# Altium schematic symbol library jlcpcb_2025_04_inductors_extended_0201.schlib: 459 symbols (part 4 of 9)
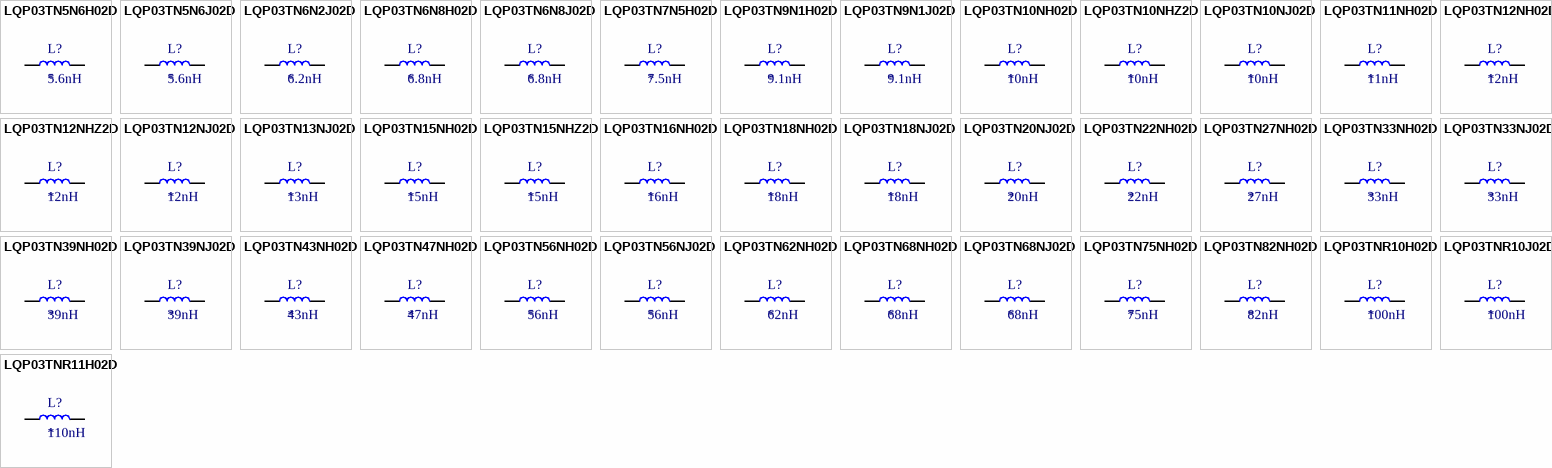
[diagram p14: symbols LQP03TN5N6H02D to LQP03TNR11H02D]

## LQP03TN6N8H02D
designator L?  Inductance: 6.8nH
Inductor, 6.8nH, ±3%, 600mΩ, 300mA, SMD 0201; Manufacturer: Murata Electronics; Manufacturer Part Number: LQP03TN6N8H02D; Self-Resonant Frequency: 3.9GHz; Q Factor: 14@500MHz; Package Size: 0201; JLCPCB Basic Part: No; JLCPCB Part Number: C162628; Supplier 1: LCSC; Category: Inductors; Supplier Part Number 1: C162628; Tolerance: ±3%; Rated Current: 300mA; DC Resistance: 600mΩ; RoHS: Yes; ComponentLink1Description: Datasheet; ComponentLink1URL: https://wmsc.lcsc.com/wmsc/upload/file/pdf/v2/lcsc/2304140030_Murata-Electronics-LQP03TN6N8H02D_C162628.pdf; ComponentLink2Description: JLCPCB Part URL; ComponentLink2URL: https://jlcpcb.com/partdetail/C162628; ComponentLink3Description: LCSC Part URL; ComponentLink3URL: https://lcsc.com/product-detail/Inductors-SMD_Murata-Electronics-Murata-Electronics-LQP03TN6N8H02D_C162628.html
footprint IND-0201 (0201 (0603M) Inductor)
pins: 1, 2

## LQP03TN6N8J02D
designator L?  Inductance: 6.8nH
Inductor, 6.8nH, ±5%, 600mΩ, 300mA, SMD 0201; Manufacturer: Murata Electronics; Manufacturer Part Number: LQP03TN6N8J02D; Self-Resonant Frequency: 3.9GHz; Q Factor: 14@500MHz; Package Size: 0201; JLCPCB Basic Part: No; JLCPCB Part Number: C162629; Supplier 1: LCSC; Category: Inductors; Supplier Part Number 1: C162629; Tolerance: ±5%; Rated Current: 300mA; DC Resistance: 600mΩ; RoHS: Yes; ComponentLink1Description: Datasheet; ComponentLink1URL: https://wmsc.lcsc.com/wmsc/upload/file/pdf/v2/lcsc/1811081627_Murata-Electronics-LQP03TN6N8J02D_C162629.pdf; ComponentLink2Description: JLCPCB Part URL; ComponentLink2URL: https://jlcpcb.com/partdetail/C162629; ComponentLink3Description: LCSC Part URL; ComponentLink3URL: https://lcsc.com/product-detail/Inductors-SMD_Murata-Electronics-Murata-Electronics-LQP03TN6N8J02D_C162629.html
footprint IND-0201 (0201 (0603M) Inductor)
pins: 1, 2

## LQP03TN7N5H02D
designator L?  Inductance: 7.5nH
Inductor, 7.5nH, ±3%, 600mΩ, 300mA, SMD 0201; Manufacturer: Murata Electronics; Manufacturer Part Number: LQP03TN7N5H02D; Self-Resonant Frequency: 3.7GHz; Q Factor: 14@500MHz; Package Size: 0201; JLCPCB Basic Part: No; JLCPCB Part Number: C98046; Supplier 1: LCSC; Category: Inductors; Supplier Part Number 1: C98046; Tolerance: ±3%; Rated Current: 300mA; DC Resistance: 600mΩ; RoHS: Yes; ComponentLink1Description: Datasheet; ComponentLink1URL: https://wmsc.lcsc.com/wmsc/upload/file/pdf/v2/lcsc/2304140030_Murata-Electronics-LQP03TN7N5H02D_C98046.pdf; ComponentLink2Description: JLCPCB Part URL; ComponentLink2URL: https://jlcpcb.com/partdetail/C98046; ComponentLink3Description: LCSC Part URL; ComponentLink3URL: https://lcsc.com/product-detail/Inductors-SMD_Murata-Electronics-Murata-Electronics-LQP03TN7N5H02D_C98046.html
footprint IND-0201 (0201 (0603M) Inductor)
pins: 1, 2

## LQP03TN9N1H02D
designator L?  Inductance: 9.1nH
Inductor, 9.1nH, ±3%, 700mΩ, 250mA, SMD 0201; Manufacturer: Murata Electronics; Manufacturer Part Number: LQP03TN9N1H02D; Self-Resonant Frequency: 3.3GHz; Q Factor: 14@500MHz; Package Size: 0201; JLCPCB Basic Part: No; JLCPCB Part Number: C162631; Supplier 1: LCSC; Category: Inductors; Supplier Part Number 1: C162631; Tolerance: ±3%; Rated Current: 250mA; DC Resistance: 700mΩ; RoHS: Yes; ComponentLink1Description: Datasheet; ComponentLink1URL: https://wmsc.lcsc.com/wmsc/upload/file/pdf/v2/lcsc/2304140030_Murata-Electronics-LQP03TN9N1H02D_C162631.pdf; ComponentLink2Description: JLCPCB Part URL; ComponentLink2URL: https://jlcpcb.com/partdetail/C162631; ComponentLink3Description: LCSC Part URL; ComponentLink3URL: https://lcsc.com/product-detail/Inductors-SMD_Murata-Electronics-Murata-Electronics-LQP03TN9N1H02D_C162631.html
footprint IND-0201 (0201 (0603M) Inductor)
pins: 1, 2

## LQP03TN9N1J02D
designator L?  Inductance: 9.1nH
Inductor, 9.1nH, ±5%, 700mΩ, 250mA, SMD 0201; Manufacturer: Murata Electronics; Manufacturer Part Number: LQP03TN9N1J02D; Self-Resonant Frequency: 3.3GHz; Q Factor: 14@500MHz; Package Size: 0201; JLCPCB Basic Part: No; JLCPCB Part Number: C162632; Supplier 1: LCSC; Category: Inductors; Supplier Part Number 1: C162632; Tolerance: ±5%; Rated Current: 250mA; DC Resistance: 700mΩ; RoHS: Yes; ComponentLink1Description: Datasheet; ComponentLink1URL: https://wmsc.lcsc.com/wmsc/upload/file/pdf/v2/lcsc/2304140030_Murata-Electronics-LQP03TN9N1J02D_C162632.pdf; ComponentLink2Description: JLCPCB Part URL; ComponentLink2URL: https://jlcpcb.com/partdetail/C162632; ComponentLink3Description: LCSC Part URL; ComponentLink3URL: https://lcsc.com/product-detail/Inductors-SMD_Murata-Electronics-Murata-Electronics-LQP03TN9N1J02D_C162632.html
footprint IND-0201 (0201 (0603M) Inductor)
pins: 1, 2

## LQP03TN10NH02D
designator L?  Inductance: 10nH
Inductor, 10nH, ±3%, 700mΩ, 250mA, SMD 0201; Manufacturer: Murata Electronics; Manufacturer Part Number: LQP03TN10NH02D; Self-Resonant Frequency: 3.2GHz; Q Factor: 14@500MHz; Package Size: 0201; JLCPCB Basic Part: No; JLCPCB Part Number: C162594; Supplier 1: LCSC; Category: Inductors; Supplier Part Number 1: C162594; Tolerance: ±3%; Rated Current: 250mA; DC Resistance: 700mΩ; RoHS: Yes; ComponentLink1Description: Datasheet; ComponentLink1URL: https://wmsc.lcsc.com/wmsc/upload/file/pdf/v2/lcsc/2304140030_Murata-Electronics-LQP03TN10NH02D_C162594.pdf; ComponentLink2Description: JLCPCB Part URL; ComponentLink2URL: https://jlcpcb.com/partdetail/C162594; ComponentLink3Description: LCSC Part URL; ComponentLink3URL: https://lcsc.com/product-detail/Inductors-SMD_Murata-Electronics-Murata-Electronics-LQP03TN10NH02D_C162594.html
footprint IND-0201 (0201 (0603M) Inductor)
pins: 1, 2

## LQP03TN10NHZ2D
designator L?  Inductance: 10nH
Inductor, 10nH, ±3%, 700mΩ, 250mA, SMD 0201; Manufacturer: Murata Electronics; Manufacturer Part Number: LQP03TN10NHZ2D; Self-Resonant Frequency: 3.2GHz; Q Factor: 14@500MHz; Package Size: 0201; JLCPCB Basic Part: No; JLCPCB Part Number: C2046197; Supplier 1: LCSC; Category: Inductors; Supplier Part Number 1: C2046197; Tolerance: ±3%; Rated Current: 250mA; DC Resistance: 700mΩ; RoHS: Yes; ComponentLink1Description: Datasheet; ComponentLink1URL: https://wmsc.lcsc.com/wmsc/upload/file/pdf/v2/lcsc/2304140030_Murata-Electronics-LQP03TN10NHZ2D_C2046197.pdf; ComponentLink2Description: JLCPCB Part URL; ComponentLink2URL: https://jlcpcb.com/partdetail/C2046197; ComponentLink3Description: LCSC Part URL; ComponentLink3URL: https://lcsc.com/product-detail/Inductors-SMD_Murata-Electronics-Murata-Electronics-LQP03TN10NHZ2D_C2046197.html
footprint IND-0201 (0201 (0603M) Inductor)
pins: 1, 2

## LQP03TN10NJ02D
designator L?  Inductance: 10nH
Inductor, 10nH, ±5%, 700mΩ, 250mA, SMD 0201; Manufacturer: Murata Electronics; Manufacturer Part Number: LQP03TN10NJ02D; Self-Resonant Frequency: 3.2GHz; Q Factor: 14@500MHz; Package Size: 0201; JLCPCB Basic Part: No; JLCPCB Part Number: C162595; Supplier 1: LCSC; Category: Inductors; Supplier Part Number 1: C162595; Tolerance: ±5%; Rated Current: 250mA; DC Resistance: 700mΩ; RoHS: Yes; ComponentLink1Description: Datasheet; ComponentLink1URL: https://wmsc.lcsc.com/wmsc/upload/file/pdf/v2/lcsc/2304140030_Murata-Electronics-LQP03TN10NJ02D_C162595.pdf; ComponentLink2Description: JLCPCB Part URL; ComponentLink2URL: https://jlcpcb.com/partdetail/C162595; ComponentLink3Description: LCSC Part URL; ComponentLink3URL: https://lcsc.com/product-detail/Inductors-SMD_Murata-Electronics-Murata-Electronics-LQP03TN10NJ02D_C162595.html
footprint IND-0201 (0201 (0603M) Inductor)
pins: 1, 2

## LQP03TN11NH02D
designator L?  Inductance: 11nH
Inductor, 11nH, ±3%, 800mΩ, 250mA, SMD 0201; Manufacturer: Murata Electronics; Manufacturer Part Number: LQP03TN11NH02D; Self-Resonant Frequency: 2.9GHz; Q Factor: 14@500MHz; Package Size: 0201; JLCPCB Basic Part: No; JLCPCB Part Number: C162596; Supplier 1: LCSC; Category: Inductors; Supplier Part Number 1: C162596; Tolerance: ±3%; Rated Current: 250mA; DC Resistance: 800mΩ; RoHS: Yes; ComponentLink1Description: Datasheet; ComponentLink1URL: https://wmsc.lcsc.com/wmsc/upload/file/pdf/v2/lcsc/2304140030_Murata-Electronics-LQP03TN11NH02D_C162596.pdf; ComponentLink2Description: JLCPCB Part URL; ComponentLink2URL: https://jlcpcb.com/partdetail/C162596; ComponentLink3Description: LCSC Part URL; ComponentLink3URL: https://lcsc.com/product-detail/Inductors-SMD_Murata-Electronics-Murata-Electronics-LQP03TN11NH02D_C162596.html
footprint IND-0201 (0201 (0603M) Inductor)
pins: 1, 2

## LQP03TN12NH02D
designator L?  Inductance: 12nH
Inductor, 12nH, ±3%, 700mΩ, 250mA, SMD 0201; Manufacturer: Murata Electronics; Manufacturer Part Number: LQP03TN12NH02D; Self-Resonant Frequency: 2.9GHz; Q Factor: 12@500MHz; Package Size: 0201; JLCPCB Basic Part: No; JLCPCB Part Number: C162597; Supplier 1: LCSC; Category: Inductors; Supplier Part Number 1: C162597; Tolerance: ±3%; Rated Current: 250mA; DC Resistance: 700mΩ; RoHS: Yes; ComponentLink1Description: Datasheet; ComponentLink1URL: https://wmsc.lcsc.com/wmsc/upload/file/pdf/v2/lcsc/2304140030_Murata-Electronics-LQP03TN12NH02D_C162597.pdf; ComponentLink2Description: JLCPCB Part URL; ComponentLink2URL: https://jlcpcb.com/partdetail/C162597; ComponentLink3Description: LCSC Part URL; ComponentLink3URL: https://lcsc.com/product-detail/Inductors-SMD_Murata-Electronics-Murata-Electronics-LQP03TN12NH02D_C162597.html
footprint IND-0201 (0201 (0603M) Inductor)
pins: 1, 2

## LQP03TN12NHZ2D
designator L?  Inductance: 12nH
Inductor, 12nH, ±3%, 700mΩ, 250mA, SMD 0201; Manufacturer: Murata Electronics; Manufacturer Part Number: LQP03TN12NHZ2D; Self-Resonant Frequency: 4.3GHz; Q Factor: 12@500MHz; Package Size: 0201; JLCPCB Basic Part: No; JLCPCB Part Number: C1332832; Supplier 1: LCSC; Category: Inductors; Supplier Part Number 1: C1332832; Tolerance: ±3%; Rated Current: 250mA; DC Resistance: 700mΩ; RoHS: Yes; ComponentLink1Description: Datasheet; ComponentLink1URL: https://wmsc.lcsc.com/wmsc/upload/file/pdf/v2/lcsc/2304140030_Murata-Electronics-LQP03TN12NHZ2D_C1332832.pdf; ComponentLink2Description: JLCPCB Part URL; ComponentLink2URL: https://jlcpcb.com/partdetail/C1332832; ComponentLink3Description: LCSC Part URL; ComponentLink3URL: https://lcsc.com/product-detail/Inductors-SMD_Murata-Electronics-Murata-Electronics-LQP03TN12NHZ2D_C1332832.html
footprint IND-0201 (0201 (0603M) Inductor)
pins: 1, 2

## LQP03TN12NJ02D
designator L?  Inductance: 12nH
Inductor, 12nH, ±5%, 700mΩ, 250mA, SMD 0201; Manufacturer: Murata Electronics; Manufacturer Part Number: LQP03TN12NJ02D; Self-Resonant Frequency: 2.9GHz; Q Factor: 12@500MHz; Package Size: 0201; JLCPCB Basic Part: No; JLCPCB Part Number: C162598; Supplier 1: LCSC; Category: Inductors; Supplier Part Number 1: C162598; Tolerance: ±5%; Rated Current: 250mA; DC Resistance: 700mΩ; RoHS: Yes; ComponentLink1Description: Datasheet; ComponentLink1URL: https://wmsc.lcsc.com/wmsc/upload/file/pdf/v2/lcsc/2304140030_Murata-Electronics-LQP03TN12NJ02D_C162598.pdf; ComponentLink2Description: JLCPCB Part URL; ComponentLink2URL: https://jlcpcb.com/partdetail/C162598; ComponentLink3Description: LCSC Part URL; ComponentLink3URL: https://lcsc.com/product-detail/Inductors-SMD_Murata-Electronics-Murata-Electronics-LQP03TN12NJ02D_C162598.html
footprint IND-0201 (0201 (0603M) Inductor)
pins: 1, 2

## LQP03TN13NJ02D
designator L?  Inductance: 13nH
Inductor, 13nH, ±5%, 800mΩ, 250mA, SMD 0201; Manufacturer: Murata Electronics; Manufacturer Part Number: LQP03TN13NJ02D; Self-Resonant Frequency: 2.6GHz; Q Factor: 12@500MHz; Package Size: 0201; JLCPCB Basic Part: No; JLCPCB Part Number: C206456; Supplier 1: LCSC; Category: Inductors; Supplier Part Number 1: C206456; Tolerance: ±5%; Rated Current: 250mA; DC Resistance: 800mΩ; RoHS: Yes; ComponentLink1Description: Datasheet; ComponentLink1URL: https://wmsc.lcsc.com/wmsc/upload/file/pdf/v2/lcsc/2001031714_Murata-Electronics-LQP03TN13NJ02D_C206456.pdf; ComponentLink2Description: JLCPCB Part URL; ComponentLink2URL: https://jlcpcb.com/partdetail/C206456; ComponentLink3Description: LCSC Part URL; ComponentLink3URL: https://lcsc.com/product-detail/Inductors-SMD_Murata-Electronics-Murata-Electronics-LQP03TN13NJ02D_C206456.html
footprint IND-0201 (0201 (0603M) Inductor)
pins: 1, 2

## LQP03TN15NH02D
designator L?  Inductance: 15nH
Inductor, 15nH, ±3%, 700mΩ, 250mA, SMD 0201; Manufacturer: Murata Electronics; Manufacturer Part Number: LQP03TN15NH02D; Self-Resonant Frequency: 2.6GHz; Q Factor: 12@500MHz; Package Size: 0201; JLCPCB Basic Part: No; JLCPCB Part Number: C98038; Supplier 1: LCSC; Category: Inductors; Supplier Part Number 1: C98038; Tolerance: ±3%; Rated Current: 250mA; DC Resistance: 700mΩ; RoHS: Yes; ComponentLink1Description: Datasheet; ComponentLink1URL: https://wmsc.lcsc.com/wmsc/upload/file/pdf/v2/lcsc/2304140030_Murata-Electronics-LQP03TN15NH02D_C98038.pdf; ComponentLink2Description: JLCPCB Part URL; ComponentLink2URL: https://jlcpcb.com/partdetail/C98038; ComponentLink3Description: LCSC Part URL; ComponentLink3URL: https://lcsc.com/product-detail/Inductors-SMD_Murata-Electronics-Murata-Electronics-LQP03TN15NH02D_C98038.html
footprint IND-0201 (0201 (0603M) Inductor)
pins: 1, 2

## LQP03TN15NHZ2D
designator L?  Inductance: 15nH
Inductor, 15nH, ±3%, 700mΩ, 250mA, SMD 0201; Manufacturer: Murata Electronics; Manufacturer Part Number: LQP03TN15NHZ2D; Self-Resonant Frequency: 3.8GHz; Q Factor: 12@500MHz; Package Size: 0201; JLCPCB Basic Part: No; JLCPCB Part Number: C1332892; Supplier 1: LCSC; Category: Inductors; Supplier Part Number 1: C1332892; Tolerance: ±3%; Rated Current: 250mA; DC Resistance: 700mΩ; RoHS: Yes; ComponentLink1Description: Datasheet; ComponentLink1URL: https://wmsc.lcsc.com/wmsc/upload/file/pdf/v2/lcsc/2304140030_Murata-Electronics-LQP03TN15NHZ2D_C1332892.pdf; ComponentLink2Description: JLCPCB Part URL; ComponentLink2URL: https://jlcpcb.com/partdetail/C1332892; ComponentLink3Description: LCSC Part URL; ComponentLink3URL: https://lcsc.com/product-detail/Inductors-SMD_Murata-Electronics-Murata-Electronics-LQP03TN15NHZ2D_C1332892.html
footprint IND-0201 (0201 (0603M) Inductor)
pins: 1, 2

## LQP03TN16NH02D
designator L?  Inductance: 16nH
Inductor, 16nH, ±3%, 950mΩ, 200mA, SMD 0201; Manufacturer: Murata Electronics; Manufacturer Part Number: LQP03TN16NH02D; Self-Resonant Frequency: 2.2GHz; Q Factor: 12@500MHz; Package Size: 0201; JLCPCB Basic Part: No; JLCPCB Part Number: C206454; Supplier 1: LCSC; Category: Inductors; Supplier Part Number 1: C206454; Tolerance: ±3%; Rated Current: 200mA; DC Resistance: 950mΩ; RoHS: Yes; ComponentLink1Description: Datasheet; ComponentLink1URL: https://wmsc.lcsc.com/wmsc/upload/file/pdf/v2/lcsc/2304140030_Murata-Electronics-LQP03TN16NH02D_C206454.pdf; ComponentLink2Description: JLCPCB Part URL; ComponentLink2URL: https://jlcpcb.com/partdetail/C206454; ComponentLink3Description: LCSC Part URL; ComponentLink3URL: https://lcsc.com/product-detail/Inductors-SMD_Murata-Electronics-Murata-Electronics-LQP03TN16NH02D_C206454.html
footprint IND-0201 (0201 (0603M) Inductor)
pins: 1, 2

## LQP03TN18NH02D
designator L?  Inductance: 18nH
Inductor, 18nH, ±3%, 800mΩ, 200mA, SMD 0201; Manufacturer: Murata Electronics; Manufacturer Part Number: LQP03TN18NH02D; Self-Resonant Frequency: 2.2GHz; Q Factor: 12@500MHz; Package Size: 0201; JLCPCB Basic Part: No; JLCPCB Part Number: C162600; Supplier 1: LCSC; Category: Inductors; Supplier Part Number 1: C162600; Tolerance: ±3%; Rated Current: 200mA; DC Resistance: 800mΩ; RoHS: Yes; ComponentLink1Description: Datasheet; ComponentLink1URL: https://wmsc.lcsc.com/wmsc/upload/file/pdf/v2/lcsc/2304140030_Murata-Electronics-LQP03TN18NH02D_C162600.pdf; ComponentLink2Description: JLCPCB Part URL; ComponentLink2URL: https://jlcpcb.com/partdetail/C162600; ComponentLink3Description: LCSC Part URL; ComponentLink3URL: https://lcsc.com/product-detail/Inductors-SMD_Murata-Electronics-Murata-Electronics-LQP03TN18NH02D_C162600.html
footprint IND-0201 (0201 (0603M) Inductor)
pins: 1, 2

## LQP03TN18NJ02D
designator L?  Inductance: 18nH
Inductor, 18nH, ±5%, 800mΩ, 200mA, SMD 0201; Manufacturer: Murata Electronics; Manufacturer Part Number: LQP03TN18NJ02D; Self-Resonant Frequency: 2.2GHz; Q Factor: 12@500MHz; Package Size: 0201; JLCPCB Basic Part: No; JLCPCB Part Number: C162601; Supplier 1: LCSC; Category: Inductors; Supplier Part Number 1: C162601; Tolerance: ±5%; Rated Current: 200mA; DC Resistance: 800mΩ; RoHS: Yes; ComponentLink1Description: Datasheet; ComponentLink1URL: https://wmsc.lcsc.com/wmsc/upload/file/pdf/v2/lcsc/2304140030_Murata-Electronics-LQP03TN18NJ02D_C162601.pdf; ComponentLink2Description: JLCPCB Part URL; ComponentLink2URL: https://jlcpcb.com/partdetail/C162601; ComponentLink3Description: LCSC Part URL; ComponentLink3URL: https://lcsc.com/product-detail/Inductors-SMD_Murata-Electronics-Murata-Electronics-LQP03TN18NJ02D_C162601.html
footprint IND-0201 (0201 (0603M) Inductor)
pins: 1, 2

## LQP03TN20NJ02D
designator L?  Inductance: 20nH
Inductor, 20nH, ±5%, 2.3Ω, 150mA, SMD 0201; Manufacturer: Murata Electronics; Manufacturer Part Number: LQP03TN20NJ02D; Self-Resonant Frequency: 2.2GHz; Q Factor: 12@500MHz; Package Size: 0201; JLCPCB Basic Part: No; JLCPCB Part Number: C206443; Supplier 1: LCSC; Category: Inductors; Supplier Part Number 1: C206443; Tolerance: ±5%; Rated Current: 150mA; DC Resistance: 2.3Ω; RoHS: Yes; ComponentLink1Description: Datasheet; ComponentLink1URL: https://wmsc.lcsc.com/wmsc/upload/file/pdf/v2/lcsc/2304140030_Murata-Electronics-LQP03TN20NJ02D_C206443.pdf; ComponentLink2Description: JLCPCB Part URL; ComponentLink2URL: https://jlcpcb.com/partdetail/C206443; ComponentLink3Description: LCSC Part URL; ComponentLink3URL: https://lcsc.com/product-detail/Inductors-SMD_Murata-Electronics-Murata-Electronics-LQP03TN20NJ02D_C206443.html
footprint IND-0201 (0201 (0603M) Inductor)
pins: 1, 2

## LQP03TN22NH02D
designator L?  Inductance: 22nH
Inductor, 22nH, ±3%, 1.9Ω, 150mA, SMD 0201; Manufacturer: Murata Electronics; Manufacturer Part Number: LQP03TN22NH02D; Self-Resonant Frequency: 2.2GHz; Q Factor: 12@500MHz; Package Size: 0201; JLCPCB Basic Part: No; JLCPCB Part Number: C86124; Supplier 1: LCSC; Category: Inductors; Supplier Part Number 1: C86124; Tolerance: ±3%; Rated Current: 150mA; DC Resistance: 1.9Ω; RoHS: Yes; ComponentLink1Description: Datasheet; ComponentLink1URL: https://wmsc.lcsc.com/wmsc/upload/file/pdf/v2/lcsc/2304140030_Murata-Electronics-LQP03TN22NH02D_C86124.pdf; ComponentLink2Description: JLCPCB Part URL; ComponentLink2URL: https://jlcpcb.com/partdetail/C86124; ComponentLink3Description: LCSC Part URL; ComponentLink3URL: https://lcsc.com/product-detail/Inductors-SMD_Murata-Electronics-Murata-Electronics-LQP03TN22NH02D_C86124.html
footprint IND-0201 (0201 (0603M) Inductor)
pins: 1, 2

## LQP03TN27NH02D
designator L?  Inductance: 27nH
Inductor, 27nH, ±3%, 2.3Ω, 140mA, SMD 0201; Manufacturer: Murata Electronics; Manufacturer Part Number: LQP03TN27NH02D; Self-Resonant Frequency: 2GHz; Q Factor: 12@500MHz; Package Size: 0201; JLCPCB Basic Part: No; JLCPCB Part Number: C162607; Supplier 1: LCSC; Category: Inductors; Supplier Part Number 1: C162607; Tolerance: ±3%; Rated Current: 140mA; DC Resistance: 2.3Ω; RoHS: Yes; ComponentLink1Description: Datasheet; ComponentLink1URL: https://wmsc.lcsc.com/wmsc/upload/file/pdf/v2/lcsc/2304140030_Murata-Electronics-LQP03TN27NH02D_C162607.pdf; ComponentLink2Description: JLCPCB Part URL; ComponentLink2URL: https://jlcpcb.com/partdetail/C162607; ComponentLink3Description: LCSC Part URL; ComponentLink3URL: https://lcsc.com/product-detail/Inductors-SMD_Murata-Electronics-Murata-Electronics-LQP03TN27NH02D_C162607.html
footprint IND-0201 (0201 (0603M) Inductor)
pins: 1, 2

## LQP03TN33NH02D
designator L?  Inductance: 33nH
Inductor, 33nH, ±3%, 2.95Ω, 120mA, SMD 0201; Manufacturer: Murata Electronics; Manufacturer Part Number: LQP03TN33NH02D; Self-Resonant Frequency: 1.7GHz; Q Factor: 9@300MHz; Package Size: 0201; JLCPCB Basic Part: No; JLCPCB Part Number: C162611; Supplier 1: LCSC; Category: Inductors; Supplier Part Number 1: C162611; Tolerance: ±3%; Rated Current: 120mA; DC Resistance: 2.95Ω; RoHS: Yes; ComponentLink1Description: Datasheet; ComponentLink1URL: https://wmsc.lcsc.com/wmsc/upload/file/pdf/v2/lcsc/2304140030_Murata-Electronics-LQP03TN33NH02D_C162611.pdf; ComponentLink2Description: JLCPCB Part URL; ComponentLink2URL: https://jlcpcb.com/partdetail/C162611; ComponentLink3Description: LCSC Part URL; ComponentLink3URL: https://lcsc.com/product-detail/Inductors-SMD_Murata-Electronics-Murata-Electronics-LQP03TN33NH02D_C162611.html
footprint IND-0201 (0201 (0603M) Inductor)
pins: 1, 2

## LQP03TN33NJ02D
designator L?  Inductance: 33nH
Inductor, 33nH, ±5%, 2.95Ω, 120mA, SMD 0201; Manufacturer: Murata Electronics; Manufacturer Part Number: LQP03TN33NJ02D; Self-Resonant Frequency: 1.7GHz; Q Factor: 9@300MHz; Package Size: 0201; JLCPCB Basic Part: No; JLCPCB Part Number: C206429; Supplier 1: LCSC; Category: Inductors; Supplier Part Number 1: C206429; Tolerance: ±5%; Rated Current: 120mA; DC Resistance: 2.95Ω; RoHS: Yes; ComponentLink1Description: Datasheet; ComponentLink1URL: https://wmsc.lcsc.com/wmsc/upload/file/pdf/v2/lcsc/2304140030_Murata-Electronics-LQP03TN33NJ02D_C206429.pdf; ComponentLink2Description: JLCPCB Part URL; ComponentLink2URL: https://jlcpcb.com/partdetail/C206429; ComponentLink3Description: LCSC Part URL; ComponentLink3URL: https://lcsc.com/product-detail/Inductors-SMD_Murata-Electronics-Murata-Electronics-LQP03TN33NJ02D_C206429.html
footprint IND-0201 (0201 (0603M) Inductor)
pins: 1, 2

## LQP03TN39NH02D
designator L?  Inductance: 39nH
Inductor, 39nH, ±3%, 3Ω, 120mA, SMD 0201; Manufacturer: Murata Electronics; Manufacturer Part Number: LQP03TN39NH02D; Self-Resonant Frequency: 1.5GHz; Q Factor: 9@300MHz; Package Size: 0201; JLCPCB Basic Part: No; JLCPCB Part Number: C162612; Supplier 1: LCSC; Category: Inductors; Supplier Part Number 1: C162612; Tolerance: ±3%; Rated Current: 120mA; DC Resistance: 3Ω; RoHS: Yes; ComponentLink1Description: Datasheet; ComponentLink1URL: https://wmsc.lcsc.com/wmsc/upload/file/pdf/v2/lcsc/2304140030_Murata-Electronics-LQP03TN39NH02D_C162612.pdf; ComponentLink2Description: JLCPCB Part URL; ComponentLink2URL: https://jlcpcb.com/partdetail/C162612; ComponentLink3Description: LCSC Part URL; ComponentLink3URL: https://lcsc.com/product-detail/Inductors-SMD_Murata-Electronics-Murata-Electronics-LQP03TN39NH02D_C162612.html
footprint IND-0201 (0201 (0603M) Inductor)
pins: 1, 2

## LQP03TN39NJ02D
designator L?  Inductance: 39nH
Inductor, 39nH, ±5%, 3Ω, 120mA, SMD 0201; Manufacturer: Murata Electronics; Manufacturer Part Number: LQP03TN39NJ02D; Self-Resonant Frequency: 1.5GHz; Q Factor: 9@300MHz; Package Size: 0201; JLCPCB Basic Part: No; JLCPCB Part Number: C162613; Supplier 1: LCSC; Category: Inductors; Supplier Part Number 1: C162613; Tolerance: ±5%; Rated Current: 120mA; DC Resistance: 3Ω; RoHS: Yes; ComponentLink1Description: Datasheet; ComponentLink1URL: https://wmsc.lcsc.com/wmsc/upload/file/pdf/v2/lcsc/1811081543_Murata-Electronics-LQP03TN39NJ02D_C162613.pdf; ComponentLink2Description: JLCPCB Part URL; ComponentLink2URL: https://jlcpcb.com/partdetail/C162613; ComponentLink3Description: LCSC Part URL; ComponentLink3URL: https://lcsc.com/product-detail/Inductors-SMD_Murata-Electronics-Murata-Electronics-LQP03TN39NJ02D_C162613.html
footprint IND-0201 (0201 (0603M) Inductor)
pins: 1, 2

## LQP03TN43NH02D
designator L?  Inductance: 43nH
Inductor, 43nH, ±3%, 3.6Ω, 100mA, SMD 0201; Manufacturer: Murata Electronics; Manufacturer Part Number: LQP03TN43NH02D; Self-Resonant Frequency: 1.3GHz; Q Factor: 9@300MHz; Package Size: 0201; JLCPCB Basic Part: No; JLCPCB Part Number: C162617; Supplier 1: LCSC; Category: Inductors; Supplier Part Number 1: C162617; Tolerance: ±3%; Rated Current: 100mA; DC Resistance: 3.6Ω; RoHS: Yes; ComponentLink1Description: Datasheet; ComponentLink1URL: https://wmsc.lcsc.com/wmsc/upload/file/pdf/v2/lcsc/2304140030_Murata-Electronics-LQP03TN43NH02D_C162617.pdf; ComponentLink2Description: JLCPCB Part URL; ComponentLink2URL: https://jlcpcb.com/partdetail/C162617; ComponentLink3Description: LCSC Part URL; ComponentLink3URL: https://lcsc.com/product-detail/Inductors-SMD_Murata-Electronics-Murata-Electronics-LQP03TN43NH02D_C162617.html
footprint IND-0201 (0201 (0603M) Inductor)
pins: 1, 2

## LQP03TN47NH02D
designator L?  Inductance: 47nH
Inductor, 47nH, ±3%, 3.6Ω, 100mA, SMD 0201; Manufacturer: Murata Electronics; Manufacturer Part Number: LQP03TN47NH02D; Self-Resonant Frequency: 1.3GHz; Q Factor: 9@300MHz; Package Size: 0201; JLCPCB Basic Part: No; JLCPCB Part Number: C162618; Supplier 1: LCSC; Category: Inductors; Supplier Part Number 1: C162618; Tolerance: ±3%; Rated Current: 100mA; DC Resistance: 3.6Ω; RoHS: Yes; ComponentLink1Description: Datasheet; ComponentLink1URL: https://wmsc.lcsc.com/wmsc/upload/file/pdf/v2/lcsc/2304140030_Murata-Electronics-LQP03TN47NH02D_C162618.pdf; ComponentLink2Description: JLCPCB Part URL; ComponentLink2URL: https://jlcpcb.com/partdetail/C162618; ComponentLink3Description: LCSC Part URL; ComponentLink3URL: https://lcsc.com/product-detail/Inductors-SMD_Murata-Electronics-Murata-Electronics-LQP03TN47NH02D_C162618.html
footprint IND-0201 (0201 (0603M) Inductor)
pins: 1, 2

## LQP03TN56NH02D
designator L?  Inductance: 56nH
Inductor, 56nH, ±3%, 3.9Ω, 100mA, SMD 0201; Manufacturer: Murata Electronics; Manufacturer Part Number: LQP03TN56NH02D; Self-Resonant Frequency: 1.2GHz; Q Factor: 9@300MHz; Package Size: 0201; JLCPCB Basic Part: No; JLCPCB Part Number: C162623; Supplier 1: LCSC; Category: Inductors; Supplier Part Number 1: C162623; Tolerance: ±3%; Rated Current: 100mA; DC Resistance: 3.9Ω; RoHS: Yes; ComponentLink1Description: Datasheet; ComponentLink1URL: https://wmsc.lcsc.com/wmsc/upload/file/pdf/v2/lcsc/2304140030_Murata-Electronics-LQP03TN56NH02D_C162623.pdf; ComponentLink2Description: JLCPCB Part URL; ComponentLink2URL: https://jlcpcb.com/partdetail/C162623; ComponentLink3Description: LCSC Part URL; ComponentLink3URL: https://lcsc.com/product-detail/Inductors-SMD_Murata-Electronics-Murata-Electronics-LQP03TN56NH02D_C162623.html
footprint IND-0201 (0201 (0603M) Inductor)
pins: 1, 2

## LQP03TN56NJ02D
designator L?  Inductance: 56nH
Inductor, 56nH, ±5%, 3.9Ω, 100mA, SMD 0201; Manufacturer: Murata Electronics; Manufacturer Part Number: LQP03TN56NJ02D; Self-Resonant Frequency: 1.2GHz; Q Factor: 9@300MHz; Package Size: 0201; JLCPCB Basic Part: No; JLCPCB Part Number: C206413; Supplier 1: LCSC; Category: Inductors; Supplier Part Number 1: C206413; Tolerance: ±5%; Rated Current: 100mA; DC Resistance: 3.9Ω; RoHS: Yes; ComponentLink1Description: Datasheet; ComponentLink1URL: https://wmsc.lcsc.com/wmsc/upload/file/pdf/v2/lcsc/2304140030_Murata-Electronics-LQP03TN56NJ02D_C206413.pdf; ComponentLink2Description: JLCPCB Part URL; ComponentLink2URL: https://jlcpcb.com/partdetail/C206413; ComponentLink3Description: LCSC Part URL; ComponentLink3URL: https://lcsc.com/product-detail/Inductors-SMD_Murata-Electronics-Murata-Electronics-LQP03TN56NJ02D_C206413.html
footprint IND-0201 (0201 (0603M) Inductor)
pins: 1, 2

## LQP03TN62NH02D
designator L?  Inductance: 62nH
Inductor, 62nH, ±3%, 8Ω, 100mA, SMD 0201; Manufacturer: Murata Electronics; Manufacturer Part Number: LQP03TN62NH02D; Self-Resonant Frequency: 1.1GHz; Q Factor: 8@300MHz; Package Size: 0201; JLCPCB Basic Part: No; JLCPCB Part Number: C412238; Supplier 1: LCSC; Category: Inductors; Supplier Part Number 1: C412238; Tolerance: ±3%; Rated Current: 100mA; DC Resistance: 8Ω; RoHS: Yes; ComponentLink1Description: Datasheet; ComponentLink1URL: https://wmsc.lcsc.com/wmsc/upload/file/pdf/v2/lcsc/2304140030_Murata-Electronics-LQP03TN62NH02D_C412238.pdf; ComponentLink2Description: JLCPCB Part URL; ComponentLink2URL: https://jlcpcb.com/partdetail/C412238; ComponentLink3Description: LCSC Part URL; ComponentLink3URL: https://lcsc.com/product-detail/Inductors-SMD_Murata-Electronics-Murata-Electronics-LQP03TN62NH02D_C412238.html
footprint IND-0201 (0201 (0603M) Inductor)
pins: 1, 2

## LQP03TN68NH02D
designator L?  Inductance: 68nH
Inductor, 68nH, ±3%, 8Ω, 100mA, SMD 0201; Manufacturer: Murata Electronics; Manufacturer Part Number: LQP03TN68NH02D; Self-Resonant Frequency: 1.1GHz; Q Factor: 8@300MHz; Package Size: 0201; JLCPCB Basic Part: No; JLCPCB Part Number: C162625; Supplier 1: LCSC; Category: Inductors; Supplier Part Number 1: C162625; Tolerance: ±3%; Rated Current: 100mA; DC Resistance: 8Ω; RoHS: Yes; ComponentLink1Description: Datasheet; ComponentLink1URL: https://wmsc.lcsc.com/wmsc/upload/file/pdf/v2/lcsc/2304140030_Murata-Electronics-LQP03TN68NH02D_C162625.pdf; ComponentLink2Description: JLCPCB Part URL; ComponentLink2URL: https://jlcpcb.com/partdetail/C162625; ComponentLink3Description: LCSC Part URL; ComponentLink3URL: https://lcsc.com/product-detail/Inductors-SMD_Murata-Electronics-Murata-Electronics-LQP03TN68NH02D_C162625.html
footprint IND-0201 (0201 (0603M) Inductor)
pins: 1, 2

## LQP03TN68NJ02D
designator L?  Inductance: 68nH
Inductor, 68nH, ±5%, 8Ω, 100mA, SMD 0201; Manufacturer: Murata Electronics; Manufacturer Part Number: LQP03TN68NJ02D; Self-Resonant Frequency: 1.1GHz; Q Factor: 8@300MHz; Package Size: 0201; JLCPCB Basic Part: No; JLCPCB Part Number: C162626; Supplier 1: LCSC; Category: Inductors; Supplier Part Number 1: C162626; Tolerance: ±5%; Rated Current: 100mA; DC Resistance: 8Ω; RoHS: Yes; ComponentLink1Description: Datasheet; ComponentLink1URL: https://wmsc.lcsc.com/wmsc/upload/file/pdf/v2/lcsc/1811081533_Murata-Electronics-LQP03TN68NJ02D_C162626.pdf; ComponentLink2Description: JLCPCB Part URL; ComponentLink2URL: https://jlcpcb.com/partdetail/C162626; ComponentLink3Description: LCSC Part URL; ComponentLink3URL: https://lcsc.com/product-detail/Inductors-SMD_Murata-Electronics-Murata-Electronics-LQP03TN68NJ02D_C162626.html
footprint IND-0201 (0201 (0603M) Inductor)
pins: 1, 2

## LQP03TN75NH02D
designator L?  Inductance: 75nH
Inductor, 75nH, ±3%, 10Ω, 100mA, SMD 0201; Manufacturer: Murata Electronics; Manufacturer Part Number: LQP03TN75NH02D; Self-Resonant Frequency: 1GHz; Q Factor: 8@300MHz; Package Size: 0201; JLCPCB Basic Part: No; JLCPCB Part Number: C412239; Supplier 1: LCSC; Category: Inductors; Supplier Part Number 1: C412239; Tolerance: ±3%; Rated Current: 100mA; DC Resistance: 10Ω; RoHS: Yes; ComponentLink1Description: Datasheet; ComponentLink1URL: https://wmsc.lcsc.com/wmsc/upload/file/pdf/v2/lcsc/2304140030_Murata-Electronics-LQP03TN75NH02D_C412239.pdf; ComponentLink2Description: JLCPCB Part URL; ComponentLink2URL: https://jlcpcb.com/partdetail/C412239; ComponentLink3Description: LCSC Part URL; ComponentLink3URL: https://lcsc.com/product-detail/Inductors-SMD_Murata-Electronics-Murata-Electronics-LQP03TN75NH02D_C412239.html
footprint IND-0201 (0201 (0603M) Inductor)
pins: 1, 2

## LQP03TN82NH02D
designator L?  Inductance: 82nH
Inductor, 82nH, ±3%, 10Ω, 100mA, SMD 0201; Manufacturer: Murata Electronics; Manufacturer Part Number: LQP03TN82NH02D; Self-Resonant Frequency: 1GHz; Q Factor: 8@300MHz; Package Size: 0201; JLCPCB Basic Part: No; JLCPCB Part Number: C162630; Supplier 1: LCSC; Category: Inductors; Supplier Part Number 1: C162630; Tolerance: ±3%; Rated Current: 100mA; DC Resistance: 10Ω; RoHS: Yes; ComponentLink1Description: Datasheet; ComponentLink1URL: https://wmsc.lcsc.com/wmsc/upload/file/pdf/v2/lcsc/2304140030_Murata-Electronics-LQP03TN82NH02D_C162630.pdf; ComponentLink2Description: JLCPCB Part URL; ComponentLink2URL: https://jlcpcb.com/partdetail/C162630; ComponentLink3Description: LCSC Part URL; ComponentLink3URL: https://lcsc.com/product-detail/Inductors-SMD_Murata-Electronics-Murata-Electronics-LQP03TN82NH02D_C162630.html
footprint IND-0201 (0201 (0603M) Inductor)
pins: 1, 2

## LQP03TNR10H02D
designator L?  Inductance: 100nH
Inductor, 100nH, ±3%, 10Ω, 80mA, SMD 0201; Manufacturer: Murata Electronics; Manufacturer Part Number: LQP03TNR10H02D; Self-Resonant Frequency: 900MHz; Q Factor: 8@300MHz; Package Size: 0201; JLCPCB Basic Part: No; JLCPCB Part Number: C162633; Supplier 1: LCSC; Category: Inductors; Supplier Part Number 1: C162633; Tolerance: ±3%; Rated Current: 80mA; DC Resistance: 10Ω; RoHS: Yes; ComponentLink1Description: Datasheet; ComponentLink1URL: https://wmsc.lcsc.com/wmsc/upload/file/pdf/v2/lcsc/2304140030_Murata-Electronics-LQP03TNR10H02D_C162633.pdf; ComponentLink2Description: JLCPCB Part URL; ComponentLink2URL: https://jlcpcb.com/partdetail/C162633; ComponentLink3Description: LCSC Part URL; ComponentLink3URL: https://lcsc.com/product-detail/Inductors-SMD_Murata-Electronics-Murata-Electronics-LQP03TNR10H02D_C162633.html
footprint IND-0201 (0201 (0603M) Inductor)
pins: 1, 2

## LQP03TNR10J02D
designator L?  Inductance: 100nH
Inductor, 100nH, ±5%, 10Ω, 80mA, SMD 0201; Manufacturer: Murata Electronics; Manufacturer Part Number: LQP03TNR10J02D; Self-Resonant Frequency: 900MHz; Q Factor: 8@300MHz; Package Size: 0201; JLCPCB Basic Part: No; JLCPCB Part Number: C87279; Supplier 1: LCSC; Category: Inductors; Supplier Part Number 1: C87279; Tolerance: ±5%; Rated Current: 80mA; DC Resistance: 10Ω; RoHS: Yes; ComponentLink1Description: Datasheet; ComponentLink1URL: https://wmsc.lcsc.com/wmsc/upload/file/pdf/v2/lcsc/1811081532_Murata-Electronics-LQP03TNR10J02D_C87279.pdf; ComponentLink2Description: JLCPCB Part URL; ComponentLink2URL: https://jlcpcb.com/partdetail/C87279; ComponentLink3Description: LCSC Part URL; ComponentLink3URL: https://lcsc.com/product-detail/Inductors-SMD_Murata-Electronics-Murata-Electronics-LQP03TNR10J02D_C87279.html
footprint IND-0201 (0201 (0603M) Inductor)
pins: 1, 2

## LQP03TNR11H02D
designator L?  Inductance: 110nH
Inductor, 110nH, ±3%, 12Ω, 80mA, SMD 0201; Manufacturer: Murata Electronics; Manufacturer Part Number: LQP03TNR11H02D; Self-Resonant Frequency: 800MHz; Q Factor: 8@300MHz; Package Size: 0201; JLCPCB Basic Part: No; JLCPCB Part Number: C412241; Supplier 1: LCSC; Category: Inductors; Supplier Part Number 1: C412241; Tolerance: ±3%; Rated Current: 80mA; DC Resistance: 12Ω; RoHS: Yes; ComponentLink1Description: Datasheet; ComponentLink1URL: https://wmsc.lcsc.com/wmsc/upload/file/pdf/v2/lcsc/2304140030_Murata-Electronics-LQP03TNR11H02D_C412241.pdf; ComponentLink2Description: JLCPCB Part URL; ComponentLink2URL: https://jlcpcb.com/partdetail/C412241; ComponentLink3Description: LCSC Part URL; ComponentLink3URL: https://lcsc.com/product-detail/Inductors-SMD_Murata-Electronics-Murata-Electronics-LQP03TNR11H02D_C412241.html
footprint IND-0201 (0201 (0603M) Inductor)
pins: 1, 2

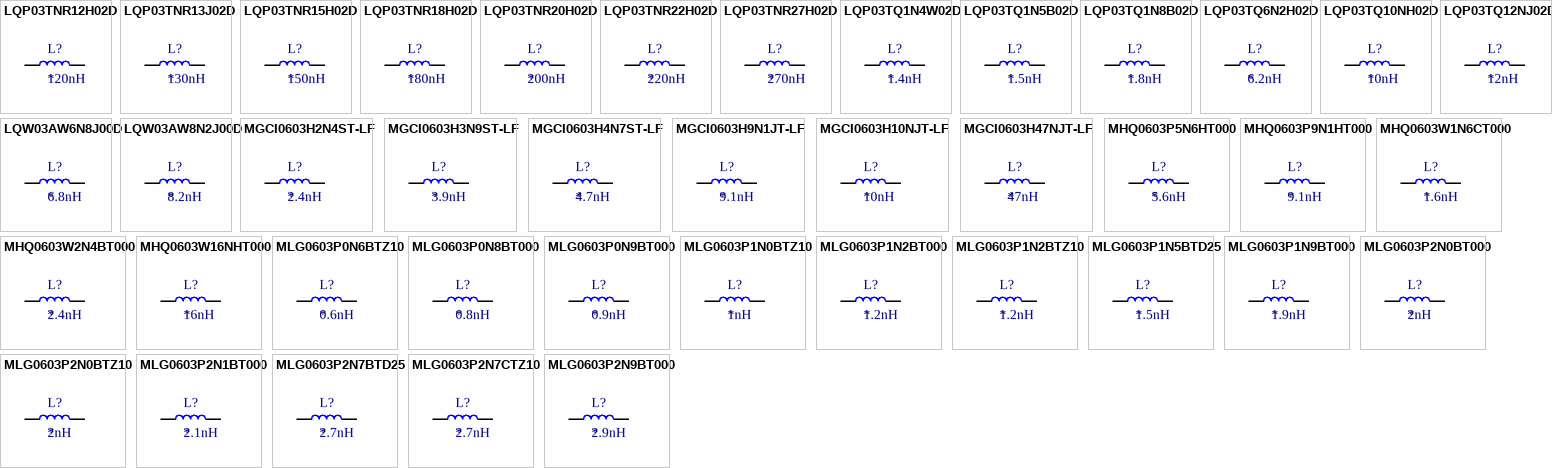
[diagram p5: symbols LQP03TNR12H02D to MLG0603P2N9BT000]

## LQP03TNR12H02D
designator L?  Inductance: 120nH
Inductor, 120nH, ±3%, 12Ω, 80mA, SMD 0201; Manufacturer: Murata Electronics; Manufacturer Part Number: LQP03TNR12H02D; Self-Resonant Frequency: 800MHz; Q Factor: 8@300MHz; Package Size: 0201; JLCPCB Basic Part: No; JLCPCB Part Number: C162634; Supplier 1: LCSC; Category: Inductors; Supplier Part Number 1: C162634; Tolerance: ±3%; Rated Current: 80mA; DC Resistance: 12Ω; RoHS: Yes; ComponentLink1Description: Datasheet; ComponentLink1URL: https://wmsc.lcsc.com/wmsc/upload/file/pdf/v2/lcsc/2304140030_Murata-Electronics-LQP03TNR12H02D_C162634.pdf; ComponentLink2Description: JLCPCB Part URL; ComponentLink2URL: https://jlcpcb.com/partdetail/C162634; ComponentLink3Description: LCSC Part URL; ComponentLink3URL: https://lcsc.com/product-detail/Inductors-SMD_Murata-Electronics-Murata-Electronics-LQP03TNR12H02D_C162634.html
footprint IND-0201 (0201 (0603M) Inductor)
pins: 1, 2

## LQP03TNR13J02D
designator L?  Inductance: 130nH
Inductor, 130nH, ±5%, 9Ω, 80mA, SMD 0201; Manufacturer: Murata Electronics; Manufacturer Part Number: LQP03TNR13J02D; Self-Resonant Frequency: 650MHz; Q Factor: 5@100MHz; Package Size: 0201; JLCPCB Basic Part: No; JLCPCB Part Number: C206404; Supplier 1: LCSC; Category: Inductors; Supplier Part Number 1: C206404; Tolerance: ±5%; Rated Current: 80mA; DC Resistance: 9Ω; RoHS: Yes; ComponentLink1Description: Datasheet; ComponentLink1URL: https://wmsc.lcsc.com/wmsc/upload/file/pdf/v2/lcsc/2304140030_Murata-Electronics-LQP03TNR13J02D_C206404.pdf; ComponentLink2Description: JLCPCB Part URL; ComponentLink2URL: https://jlcpcb.com/partdetail/C206404; ComponentLink3Description: LCSC Part URL; ComponentLink3URL: https://lcsc.com/product-detail/Inductors-SMD_Murata-Electronics-Murata-Electronics-LQP03TNR13J02D_C206404.html
footprint IND-0201 (0201 (0603M) Inductor)
pins: 1, 2

## LQP03TNR15H02D
designator L?  Inductance: 150nH
Inductor, 150nH, ±3%, 9Ω, 80mA, SMD 0201; Manufacturer: Murata Electronics; Manufacturer Part Number: LQP03TNR15H02D; Self-Resonant Frequency: 650MHz; Q Factor: 5@100MHz; Package Size: 0201; JLCPCB Basic Part: No; JLCPCB Part Number: C162635; Supplier 1: LCSC; Category: Inductors; Supplier Part Number 1: C162635; Tolerance: ±3%; Rated Current: 80mA; DC Resistance: 9Ω; RoHS: Yes; ComponentLink1Description: Datasheet; ComponentLink1URL: https://wmsc.lcsc.com/wmsc/upload/file/pdf/v2/lcsc/2304140030_Murata-Electronics-LQP03TNR15H02D_C162635.pdf; ComponentLink2Description: JLCPCB Part URL; ComponentLink2URL: https://jlcpcb.com/partdetail/C162635; ComponentLink3Description: LCSC Part URL; ComponentLink3URL: https://lcsc.com/product-detail/Inductors-SMD_Murata-Electronics-Murata-Electronics-LQP03TNR15H02D_C162635.html
footprint IND-0201 (0201 (0603M) Inductor)
pins: 1, 2

## LQP03TNR18H02D
designator L?  Inductance: 180nH
Inductor, 180nH, ±3%, 11Ω, 70mA, SMD 0201; Manufacturer: Murata Electronics; Manufacturer Part Number: LQP03TNR18H02D; Self-Resonant Frequency: 600MHz; Q Factor: 5@100MHz; Package Size: 0201; JLCPCB Basic Part: No; JLCPCB Part Number: C162636; Supplier 1: LCSC; Category: Inductors; Supplier Part Number 1: C162636; Tolerance: ±3%; Rated Current: 70mA; DC Resistance: 11Ω; RoHS: Yes; ComponentLink1Description: Datasheet; ComponentLink1URL: https://wmsc.lcsc.com/wmsc/upload/file/pdf/v2/lcsc/2304140030_Murata-Electronics-LQP03TNR18H02D_C162636.pdf; ComponentLink2Description: JLCPCB Part URL; ComponentLink2URL: https://jlcpcb.com/partdetail/C162636; ComponentLink3Description: LCSC Part URL; ComponentLink3URL: https://lcsc.com/product-detail/Inductors-SMD_Murata-Electronics-Murata-Electronics-LQP03TNR18H02D_C162636.html
footprint IND-0201 (0201 (0603M) Inductor)
pins: 1, 2

## LQP03TNR20H02D
designator L?  Inductance: 200nH
Inductor, 200nH, ±3%, 13Ω, 60mA, SMD 0201; Manufacturer: Murata Electronics; Manufacturer Part Number: LQP03TNR20H02D; Self-Resonant Frequency: 500MHz; Q Factor: 5@100MHz; Package Size: 0201; JLCPCB Basic Part: No; JLCPCB Part Number: C412244; Supplier 1: LCSC; Category: Inductors; Supplier Part Number 1: C412244; Tolerance: ±3%; Rated Current: 60mA; DC Resistance: 13Ω; RoHS: Yes; ComponentLink1Description: Datasheet; ComponentLink1URL: https://wmsc.lcsc.com/wmsc/upload/file/pdf/v2/lcsc/2304140030_Murata-Electronics-LQP03TNR20H02D_C412244.pdf; ComponentLink2Description: JLCPCB Part URL; ComponentLink2URL: https://jlcpcb.com/partdetail/C412244; ComponentLink3Description: LCSC Part URL; ComponentLink3URL: https://lcsc.com/product-detail/Inductors-SMD_Murata-Electronics-Murata-Electronics-LQP03TNR20H02D_C412244.html
footprint IND-0201 (0201 (0603M) Inductor)
pins: 1, 2

## LQP03TNR22H02D
designator L?  Inductance: 220nH
Inductor, 220nH, ±3%, 13Ω, 60mA, SMD 0201; Manufacturer: Murata Electronics; Manufacturer Part Number: LQP03TNR22H02D; Self-Resonant Frequency: 500MHz; Q Factor: 5@100MHz; Package Size: 0201; JLCPCB Basic Part: No; JLCPCB Part Number: C162637; Supplier 1: LCSC; Category: Inductors; Supplier Part Number 1: C162637; Tolerance: ±3%; Rated Current: 60mA; DC Resistance: 13Ω; RoHS: Yes; ComponentLink1Description: Datasheet; ComponentLink1URL: https://wmsc.lcsc.com/wmsc/upload/file/pdf/v2/lcsc/2304140030_Murata-Electronics-LQP03TNR22H02D_C162637.pdf; ComponentLink2Description: JLCPCB Part URL; ComponentLink2URL: https://jlcpcb.com/partdetail/C162637; ComponentLink3Description: LCSC Part URL; ComponentLink3URL: https://lcsc.com/product-detail/Inductors-SMD_Murata-Electronics-Murata-Electronics-LQP03TNR22H02D_C162637.html
footprint IND-0201 (0201 (0603M) Inductor)
pins: 1, 2

## LQP03TNR27H02D
designator L?  Inductance: 270nH
Inductor, 270nH, ±3%, 15Ω, 60mA, SMD 0201; Manufacturer: Murata Electronics; Manufacturer Part Number: LQP03TNR27H02D; Self-Resonant Frequency: 450MHz; Q Factor: 5@100MHz; Package Size: 0201; JLCPCB Basic Part: No; JLCPCB Part Number: C162638; Supplier 1: LCSC; Category: Inductors; Supplier Part Number 1: C162638; Tolerance: ±3%; Rated Current: 60mA; DC Resistance: 15Ω; RoHS: Yes; ComponentLink1Description: Datasheet; ComponentLink1URL: https://wmsc.lcsc.com/wmsc/upload/file/pdf/v2/lcsc/2304140030_Murata-Electronics-LQP03TNR27H02D_C162638.pdf; ComponentLink2Description: JLCPCB Part URL; ComponentLink2URL: https://jlcpcb.com/partdetail/C162638; ComponentLink3Description: LCSC Part URL; ComponentLink3URL: https://lcsc.com/product-detail/Inductors-SMD_Murata-Electronics-Murata-Electronics-LQP03TNR27H02D_C162638.html
footprint IND-0201 (0201 (0603M) Inductor)
pins: 1, 2

## LQP03TQ1N4W02D
designator L?  Inductance: 1.4nH
Inductor, 1.4nH, 100mΩ, 700mA, SMD 0201; Manufacturer: Murata Electronics; Manufacturer Part Number: LQP03TQ1N4W02D; Self-Resonant Frequency: 16GHz; Q Factor: 17@500MHz; Package Size: 0201; JLCPCB Basic Part: No; JLCPCB Part Number: C237357; Supplier 1: LCSC; Category: Inductors; Supplier Part Number 1: C237357; Rated Current: 700mA; DC Resistance: 100mΩ; RoHS: Yes; ComponentLink1Description: Datasheet; ComponentLink1URL: https://wmsc.lcsc.com/wmsc/upload/file/pdf/v2/lcsc/2304140030_Murata-Electronics-LQP03TQ1N4W02D_C237357.pdf; ComponentLink2Description: JLCPCB Part URL; ComponentLink2URL: https://jlcpcb.com/partdetail/C237357; ComponentLink3Description: LCSC Part URL; ComponentLink3URL: https://lcsc.com/product-detail/Inductors-SMD_Murata-Electronics-Murata-Electronics-LQP03TQ1N4W02D_C237357.html
footprint IND-0201 (0201 (0603M) Inductor)
pins: 1, 2

## LQP03TQ1N5B02D
designator L?  Inductance: 1.5nH
Inductor, 1.5nH, 100mΩ, 650mA, SMD 0201; Manufacturer: Murata Electronics; Manufacturer Part Number: LQP03TQ1N5B02D; Self-Resonant Frequency: 15GHz; Q Factor: 17@500MHz; Package Size: 0201; JLCPCB Basic Part: No; JLCPCB Part Number: C237377; Supplier 1: LCSC; Category: Inductors; Supplier Part Number 1: C237377; Rated Current: 650mA; DC Resistance: 100mΩ; RoHS: Yes; ComponentLink1Description: Datasheet; ComponentLink1URL: https://wmsc.lcsc.com/wmsc/upload/file/pdf/v2/lcsc/2304140030_Murata-Electronics-LQP03TQ1N5B02D_C237377.pdf; ComponentLink2Description: JLCPCB Part URL; ComponentLink2URL: https://jlcpcb.com/partdetail/C237377; ComponentLink3Description: LCSC Part URL; ComponentLink3URL: https://lcsc.com/product-detail/Inductors-SMD_Murata-Electronics-Murata-Electronics-LQP03TQ1N5B02D_C237377.html
footprint IND-0201 (0201 (0603M) Inductor)
pins: 1, 2

## LQP03TQ1N8B02D
designator L?  Inductance: 1.8nH
Inductor, 1.8nH, 100mΩ, 650mA, SMD 0201; Manufacturer: Murata Electronics; Manufacturer Part Number: LQP03TQ1N8B02D; Self-Resonant Frequency: 15GHz; Q Factor: 17@500MHz; Package Size: 0201; JLCPCB Basic Part: No; JLCPCB Part Number: C237363; Supplier 1: LCSC; Category: Inductors; Supplier Part Number 1: C237363; Rated Current: 650mA; DC Resistance: 100mΩ; RoHS: Yes; ComponentLink1Description: Datasheet; ComponentLink1URL: https://wmsc.lcsc.com/wmsc/upload/file/pdf/v2/lcsc/2304140030_Murata-Electronics-LQP03TQ1N8B02D_C237363.pdf; ComponentLink2Description: JLCPCB Part URL; ComponentLink2URL: https://jlcpcb.com/partdetail/C237363; ComponentLink3Description: LCSC Part URL; ComponentLink3URL: https://lcsc.com/product-detail/Inductors-SMD_Murata-Electronics-Murata-Electronics-LQP03TQ1N8B02D_C237363.html
footprint IND-0201 (0201 (0603M) Inductor)
pins: 1, 2

## LQP03TQ6N2H02D
designator L?  Inductance: 6.2nH
Inductor, 6.2nH, ±3%, 550mΩ, 300mA, SMD 0201; Manufacturer: Murata Electronics; Manufacturer Part Number: LQP03TQ6N2H02D; Self-Resonant Frequency: 6GHz; Q Factor: 17@500MHz; Package Size: 0201; JLCPCB Basic Part: No; JLCPCB Part Number: C237371; Supplier 1: LCSC; Category: Inductors; Supplier Part Number 1: C237371; Tolerance: ±3%; Rated Current: 300mA; DC Resistance: 550mΩ; RoHS: Yes; ComponentLink1Description: Datasheet; ComponentLink1URL: https://wmsc.lcsc.com/wmsc/upload/file/pdf/v2/lcsc/2304140030_Murata-Electronics-LQP03TQ6N2H02D_C237371.pdf; ComponentLink2Description: JLCPCB Part URL; ComponentLink2URL: https://jlcpcb.com/partdetail/C237371; ComponentLink3Description: LCSC Part URL; ComponentLink3URL: https://lcsc.com/product-detail/Inductors-SMD_Murata-Electronics-Murata-Electronics-LQP03TQ6N2H02D_C237371.html
footprint IND-0201 (0201 (0603M) Inductor)
pins: 1, 2

## LQP03TQ10NH02D
designator L?  Inductance: 10nH
Inductor, 10nH, ±3%, 690mΩ, 250mA, SMD 0201; Manufacturer: Murata Electronics; Manufacturer Part Number: LQP03TQ10NH02D; Self-Resonant Frequency: 6.3GHz; Q Factor: 17@500MHz; Package Size: 0201; JLCPCB Basic Part: No; JLCPCB Part Number: C237361; Supplier 1: LCSC; Category: Inductors; Supplier Part Number 1: C237361; Tolerance: ±3%; Rated Current: 250mA; DC Resistance: 690mΩ; RoHS: Yes; ComponentLink1Description: Datasheet; ComponentLink1URL: https://wmsc.lcsc.com/wmsc/upload/file/pdf/v2/lcsc/2304140030_Murata-Electronics-LQP03TQ10NH02D_C237361.pdf; ComponentLink2Description: JLCPCB Part URL; ComponentLink2URL: https://jlcpcb.com/partdetail/C237361; ComponentLink3Description: LCSC Part URL; ComponentLink3URL: https://lcsc.com/product-detail/Inductors-SMD_Murata-Electronics-Murata-Electronics-LQP03TQ10NH02D_C237361.html
footprint IND-0201 (0201 (0603M) Inductor)
pins: 1, 2

## LQP03TQ12NJ02D
designator L?  Inductance: 12nH
Inductor, 12nH, ±5%, 690mΩ, 250mA, SMD 0201; Manufacturer: Murata Electronics; Manufacturer Part Number: LQP03TQ12NJ02D; Self-Resonant Frequency: 3.7GHz; Q Factor: 17@500MHz; Package Size: 0201; JLCPCB Basic Part: No; JLCPCB Part Number: C237303; Supplier 1: LCSC; Category: Inductors; Supplier Part Number 1: C237303; Tolerance: ±5%; Rated Current: 250mA; DC Resistance: 690mΩ; RoHS: Yes; ComponentLink1Description: Datasheet; ComponentLink1URL: https://wmsc.lcsc.com/wmsc/upload/file/pdf/v2/lcsc/2304140030_Murata-Electronics-LQP03TQ12NJ02D_C237303.pdf; ComponentLink2Description: JLCPCB Part URL; ComponentLink2URL: https://jlcpcb.com/partdetail/C237303; ComponentLink3Description: LCSC Part URL; ComponentLink3URL: https://lcsc.com/product-detail/Inductors-SMD_Murata-Electronics-Murata-Electronics-LQP03TQ12NJ02D_C237303.html
footprint IND-0201 (0201 (0603M) Inductor)
pins: 1, 2

## LQW03AW6N8J00D
designator L?  Inductance: 6.8nH
Inductor, 6.8nH, ±5%, 180mΩ, 460mA, SMD 0201; Manufacturer: Murata Electronics; Manufacturer Part Number: LQW03AW6N8J00D; Package Size: 0201; JLCPCB Basic Part: No; JLCPCB Part Number: C237350; Supplier 1: LCSC; Category: Inductors; Supplier Part Number 1: C237350; Tolerance: ±5%; Rated Current: 460mA; DC Resistance: 180mΩ; RoHS: Yes; ComponentLink1Description: Datasheet; ComponentLink1URL: https://wmsc.lcsc.com/wmsc/upload/file/pdf/v2/lcsc/2304140030_Murata-Electronics-LQW03AW6N8J00D_C237350.pdf; ComponentLink2Description: JLCPCB Part URL; ComponentLink2URL: https://jlcpcb.com/partdetail/C237350; ComponentLink3Description: LCSC Part URL; ComponentLink3URL: https://lcsc.com/product-detail/Power-Inductors_Murata-Electronics-Murata-Electronics-LQW03AW6N8J00D_C237350.html
footprint IND-0201 (0201 (0603M) Inductor)
pins: 1, 2

## LQW03AW8N2J00D
designator L?  Inductance: 8.2nH
Inductor, 8.2nH, ±5%, 260mΩ, 290mA, SMD 0201; Manufacturer: Murata Electronics; Manufacturer Part Number: LQW03AW8N2J00D; Package Size: 0201; JLCPCB Basic Part: No; JLCPCB Part Number: C237320; Supplier 1: LCSC; Category: Inductors; Supplier Part Number 1: C237320; Tolerance: ±5%; Rated Current: 290mA; DC Resistance: 260mΩ; RoHS: Yes; ComponentLink1Description: Datasheet; ComponentLink1URL: https://wmsc.lcsc.com/wmsc/upload/file/pdf/v2/lcsc/2304140030_Murata-Electronics-LQW03AW8N2J00D_C237320.pdf; ComponentLink2Description: JLCPCB Part URL; ComponentLink2URL: https://jlcpcb.com/partdetail/C237320; ComponentLink3Description: LCSC Part URL; ComponentLink3URL: https://lcsc.com/product-detail/Power-Inductors_Murata-Electronics-Murata-Electronics-LQW03AW8N2J00D_C237320.html
footprint IND-0201 (0201 (0603M) Inductor)
pins: 1, 2

## MGCI0603H2N4ST-LF
designator L?  Inductance: 2.4nH
Inductor, 2.4nH, 300mΩ, 300mA, SMD 0201; Manufacturer: microgate; Manufacturer Part Number: MGCI0603H2N4ST-LF; Package Size: 0201; JLCPCB Basic Part: No; JLCPCB Part Number: C280969; Supplier 1: LCSC; Category: Inductors; Supplier Part Number 1: C280969; Rated Current: 300mA; DC Resistance: 300mΩ; RoHS: Yes; ComponentLink1Description: Datasheet; ComponentLink1URL: https://wmsc.lcsc.com/wmsc/upload/file/pdf/v2/lcsc/2304140030_microgate-MGCI0603H2N4ST-LF_C280969.pdf; ComponentLink2Description: JLCPCB Part URL; ComponentLink2URL: https://jlcpcb.com/partdetail/C280969; ComponentLink3Description: LCSC Part URL; ComponentLink3URL: https://lcsc.com/product-detail/Inductors-SMD_microgate-microgate-MGCI0603H2N4ST-LF_C280969.html
footprint IND-0201 (0201 (0603M) Inductor)
pins: 1, 2